# EAGLE library part EINK (library kennethlimcp)
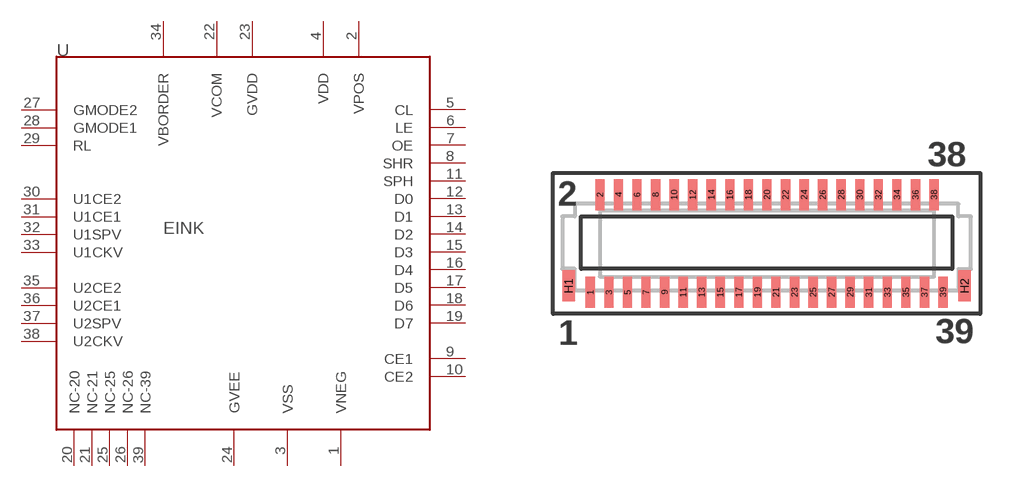
[diagram p6: symbol with the pads of FPC-0.3-39; footprint FPC-0.3-39]

Designator prefix -

## EINKED060SC4  [FPC-0.3-39]
1  VNEG
2  VPOS
3  VSS
4  VDD
5  CL
6  LE
7  OE
8  SHR
9  CE1
10  CE2
11  SPH
12  D0
13  D1
14  D2
15  D3
16  D4
17  D5
18  D6
19  D7
20  NC-20
21  NC-21
22  VCOM
23  GVDD
24  GVEE
25  NC-25
26  NC-26
27  GMODE2
28  GMODE1
29  RL
30  U1CE2
31  U1CE1
32  U1SPV
33  U1CKV
34  VBORDER
35  U2CE2
36  U2CE1
37  U2SPV
38  U2CKV
39  NC-39

## Footprint FPC-0.3-39 (pad centres in mm)
smd 0.3 x 1: 1 -1.2,-1.45; 2 -0.89,1.7; 3 -0.6,-1.45; 4 -0.29,1.7; 5 0,-1.45; 6 0.31,1.7; 7 0.6,-1.45; 8 0.91,1.7; 9 1.2,-1.45; 10 1.51,1.7; 11 1.8,-1.45; 12 2.11,1.7; 13 2.4,-1.45; 14 2.71,1.7; 15 3,-1.45; 16 3.31,1.7; 17 3.6,-1.45; 18 3.91,1.7; 19 4.2,-1.45; 20 4.51,1.7; 21 4.8,-1.45; 22 5.11,1.7; 23 5.4,-1.45; 24 5.71,1.7; 25 6,-1.45; 26 6.31,1.7; 27 6.6,-1.45; 28 6.91,1.7; 29 7.2,-1.45; 30 7.51,1.7; 31 7.8,-1.45; 32 8.11,1.7; 33 8.4,-1.45; 34 8.71,1.7; 35 9,-1.45; 36 9.31,1.7; 37 9.6,-1.45; 38 9.91,1.7; 39 10.2,-1.45
smd 0.4 x 1: H1 -1.9,-1.25; H2 10.9,-1.25